# Altium schematic symbol library General.SchLib: 18 symbols
Pins are listed as number, name and electrical type; pins without a type are passive.

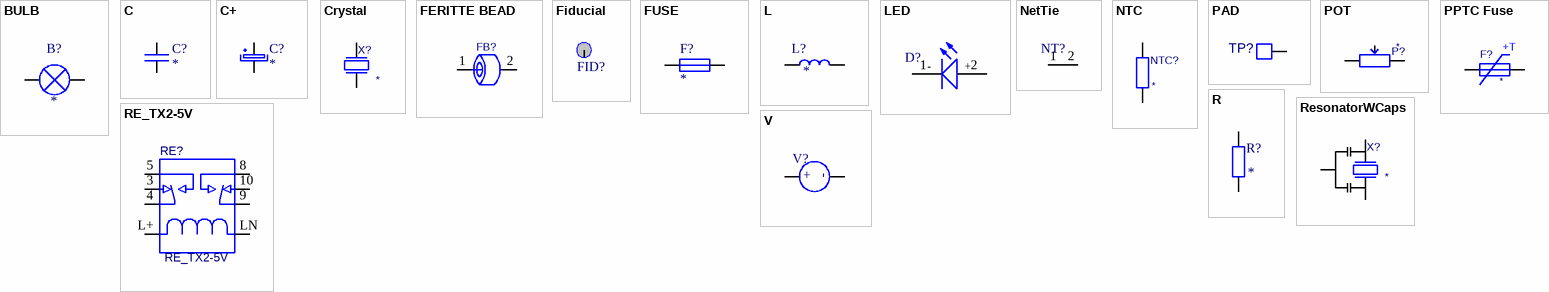
[diagram p0: symbols BULB to V]

## BULB
designator B?
pins: 1, 2

## C
designator C?
Capacitor
footprint C square R15 (600mil)
footprint C Square R5.08 (200mil)
footprint C ceramic F5mm
footprint C1608_0603I_L (Chip Capacitor, 2-Leads, Body 1.57x0.85mm, IPC High Density)
footprint C1608_0603I_M (Chip Capacitor, 2-Leads, Body 1.57x0.85mm, IPC Low Density)
footprint C1608_0603I_N (Chip Capacitor, 2-Leads, Body 1.57x0.85mm, IPC Medium Density)
footprint C1608_0603I_N-equidistant (Chip Capacitor, 2-Leads, Body 1.57x0.85mm, IPC Medium Density)
footprint C2012_0805I_L (Chip Capacitor, 2-Leads, Body 2.05x1.25mm, IPC High Density)
footprint C2012_0805I_M (Chip Capacitor, 2-Leads, Body 2.05x1.25mm, IPC Low Density)
footprint C2012_0805I_N (Chip Capacitor, 2-Leads, Body 2.05x1.25mm, IPC Medium Density)
footprint C3216_1206I_L (Chip Capacitor, 2-Leads, Body 3.20x1.60mm, IPC High Density)
footprint C3216_1206I_M (Chip Capacitor, 2-Leads, Body 3.20x1.60mm, IPC Low Density)
footprint C3216_1206I_N (Chip Capacitor, 2-Leads, Body 3.20x1.60mm, IPC Medium Density)
footprint C3225_1210I_L (Chip Capacitor, 2-Leads, Body 3.20x2.50mm, IPC High Density)
footprint C3225_1210I_M (Chip Capacitor, 2-Leads, Body 3.20x2.50mm, IPC Low Density)
footprint C3225_1210I_N (Chip Capacitor, 2-Leads, Body 3.20x2.50mm, IPC Medium Density)
pins: 1, 2

## C+
designator C?
Capacitor Polarized
footprint C Tantal A (Molded Capacitor, 2-Leads, Body 3,2x1,6mm, IPC Medium Density)
footprint C Tantal B (Molded Capacitor, 2-Leads, Body 3,5x2,8mm, IPC Medium Density)
footprint C Tantal C (Molded Capacitor, 2-Leads, Body 6,0x3,2mm, IPC Medium Density)
footprint C Tantal D (Molded Capacitor, 2-Leads, Body 7,3x4,3mm, IPC Medium Density)
footprint C Tantal E (Molded Capacitor, 2-Leads, Body 7,3x4,3mm, IPC Medium Density)
footprint C_R_5.0_10.0x13.0 (Capacitor radial FI=10mm Height=13mm, Pitch=5mm)
footprint C AlElko 5x11 R2
footprint C AlElko 6x__ R2.5
footprint C-SMD-ELKO-B (Aluminum Electrolytic Capacitor, Body 4.20x4.20x6.10mm, IPC Medium Density)
footprint C-SMD-ELKO-C (Aluminum Electrolytic Capacitor, Body 5.30x5.30x6.10mm, IPC Medium Density)
footprint C-SMD-ELKO-D (Aluminum Electrolytic Capacitor, Body 6.60x6.60x6.10mm, IPC Medium Density)
footprint C-SMD-ELKO-D8 (Aluminum Electrolytic Capacitor, Body 6,60x6,60x8,00mm, IPC Medium Density)
footprint C-SMD-ELKO-F (Aluminum Electrolytic Capacitor, Body 8.30x8.30x10.50mm, IPC Medium Density)
footprint C-SMD-ELKO-G (Aluminum Electrolytic Capacitor, Body 10.30x10.30x10.50mm, IPC Medium Density)
footprint C AlElko 8x__ R3.5
footprint C AlElko 10x__ R5
footprint C AlElko R2.5,R5
footprint C AlElko R2.54 FI5
footprint C-SMD-ELKO-E (Aluminum Electrolytic Capacitor, Body 8.30x8.30x6.50mm, IPC Low Density)
pins: 1, 2

## Crystal
designator X?
Crystal
footprint Crystal_HC49 (Crystall SMD short HC49)
footprint Crystal_THT_small_lying_down
footprint Crystal_THT_short (Crystal short THT)
footprint Crystal_THT_tall (Crystal tall THT)
footprint Crystal_5x3.2mm
pins: 1, 2

## FERITTE BEAD
designator FB?  (value not drawn)
FERITTE BEAD
footprint R1005_0402i_L (Resistor, Chip; 1.00 mm L X 0.50 mm W X 0.40 mm H body)
footprint R1005_0402i_M (Resistor, Chip; 1.00 mm L X 0.50 mm W X 0.40 mm H body)
footprint R1005_0402I_N (Resistor, Chip; 1.00 mm L X 0.50 mm W X 0.40 mm H body)
footprint R1608_0603I_L (Chip Resistor, 2-Leads, Body 1.57x0.85mm, IPC High Density)
footprint R1608_0603I_M (Chip Resistor, 2-Leads, Body 1.57x0.85mm, IPC Low Density)
footprint R1608_0603I_N-equidistant (Chip Resistor, 2-Leads, Body 1.57x0.85mm, IPC Medium Density)
footprint R1608_0603I_N (Chip Resistor, 2-Leads, Body 1.57x0.85mm, IPC Medium Density)
footprint R2012_0805I_L (Chip Resistor, 2-Leads, Body 2.05x1.25mm, IPC High Density)
footprint R2012_0805I_M (Chip Resistor, 2-Leads, Body 2.05x1.25mm, IPC Low Density)
footprint R2012_0805I_N (Chip Resistor, 2-Leads, Body 2.05x1.25mm, IPC Medium Density)
footprint R3216_1206I_L (Chip Resistor, 2-Leads, Body 3.15x1.60mm, IPC High Density)
footprint R3216_1206I_M (Chip Resistor, 2-Leads, Body 3.15x1.60mm, IPC Low Density)
footprint R3216_1206I_N (Chip Resistor, 2-Leads, Body 3.15x1.60mm, IPC Medium Density)
footprint R6432_2512I_L (Resistor, Chip; 6.40 mm L X 3.20 mm W X 0.75 mm H body)
footprint R6432_2512I_M (Resistor, Chip; 6.40 mm L X 3.20 mm W X 0.75 mm H body)
footprint R6432_2512I_N (Resistor, Chip; 6.40 mm L X 3.20 mm W X 0.75 mm H body)
pins: 1, 2

## Fiducial
designator FID?  (value not drawn)
according to IPC-7351 - is a 1mm diameter round dot with 2mm solder mask opening; Voltage: 50V; Tolerance: 5%; max.Temperature: +125; min.Temperature: -40
footprint Fiducial
pins: F (power)

## FUSE
designator F?
FUSE
footprint R1005_0402i_L (Resistor, Chip; 1.00 mm L X 0.50 mm W X 0.40 mm H body)
footprint R1005_0402i_M (Resistor, Chip; 1.00 mm L X 0.50 mm W X 0.40 mm H body)
footprint R1005_0402I_N (Resistor, Chip; 1.00 mm L X 0.50 mm W X 0.40 mm H body)
footprint R1608_0603I_L (Chip Resistor, 2-Leads, Body 1.57x0.85mm, IPC High Density)
footprint R1608_0603I_M (Chip Resistor, 2-Leads, Body 1.57x0.85mm, IPC Low Density)
footprint R1608_0603I_N (Chip Resistor, 2-Leads, Body 1.57x0.85mm, IPC Medium Density)
footprint R1608_0603I_N-equidistant (Chip Resistor, 2-Leads, Body 1.57x0.85mm, IPC Medium Density)
footprint R2012_0805I_L (Chip Resistor, 2-Leads, Body 2.05x1.25mm, IPC High Density)
footprint R2012_0805I_M (Chip Resistor, 2-Leads, Body 2.05x1.25mm, IPC Low Density)
footprint R2012_0805I_N (Chip Resistor, 2-Leads, Body 2.05x1.25mm, IPC Medium Density)
footprint R3216_1206I_L (Chip Resistor, 2-Leads, Body 3.15x1.60mm, IPC High Density)
footprint R3216_1206I_M (Chip Resistor, 2-Leads, Body 3.15x1.60mm, IPC Low Density)
footprint R3216_1206I_N (Chip Resistor, 2-Leads, Body 3.15x1.60mm, IPC Medium Density)
footprint R6432_2512I_L (Resistor, Chip; 6.40 mm L X 3.20 mm W X 0.75 mm H body)
footprint R6432_2512I_M (Resistor, Chip; 6.40 mm L X 3.20 mm W X 0.75 mm H body)
footprint R6432_2512I_N (Resistor, Chip; 6.40 mm L X 3.20 mm W X 0.75 mm H body)
pins: 1, 2

## L
designator L?
L
footprint R400
footprint L_10.4X10.4
footprint L_Radial_5.0_1.0_3D_FI11.5_H14
footprint L_Radial_7.5_1.2_2D_FI16
footprint L_RADIAL_5.0_8.5x11.0
footprint L_RADIAL_7.2_13.7x15.9
footprint MSS1278 (Precision Wire Wound Inductor, 2-Leads, Body 12,15x12,15mm, IPC Medium Density)
footprint MSS1278-enlarged pads (Precision Wire Wound Inductor, 2-Leads, Body 12,15x12,15mm, IPC NONE - Medium->Enlarged pads)
footprint L-Coilcraft-DR0608
footprint L Murata 1400 F23.8mm 27x14
footprint L100100X48_N (Precision Wire Wound Inductor, 2-Leads, Body 10.00x10.00mm, IPC Medium Density)
footprint L4040_1616I_L (Inductor, Chip; 4.00 mm L X 4.00 mm W X 2.50 mm H body)
footprint L4040_1616I_M (Inductor, Chip; 4.00 mm L X 4.00 mm W X 2.50 mm H body)
footprint L4040_1616I_N (Inductor, Chip; 4.00 mm L X 4.00 mm W X 2.50 mm H body)
footprint L5050_2020I (Precision Wire Wound Inductor, 2-Leads, Body 5,00x5,00mm, IPC Medium Density)
footprint L6060_2424I_L (Inductor, Chip; 6.00 mm L X 6.00 mm W X 2.80 mm H body)
footprint L6060_2424I_M (Inductor, Chip; 6.00 mm L X 6.00 mm W X 2.80 mm H body)
footprint L6060_2424I_N (Inductor, Chip; 6.00 mm L X 6.00 mm W X 2.80 mm H body)
footprint L7070_2523I
footprint L8080X40_N (Precision Wire Wound Inductor, 2-Leads, Body 8.00x8.00x4.00mm, IPC Medium Density)
footprint L3030X10N (Precision Wire Wound Inductor, 2-Leads, Body 3.00x3.00mm, IPC Medium Density)
footprint R1608_0603I_L (Chip Resistor, 2-Leads, Body 1.57x0.85mm, IPC High Density)
footprint R1608_0603I_M (Chip Resistor, 2-Leads, Body 1.57x0.85mm, IPC Low Density)
footprint R1608_0603I_N (Chip Resistor, 2-Leads, Body 1.57x0.85mm, IPC Medium Density)
footprint R1608_0603I_N-equidistant (Chip Resistor, 2-Leads, Body 1.57x0.85mm, IPC Medium Density)
footprint R2012_0805I_L (Chip Resistor, 2-Leads, Body 2.05x1.25mm, IPC High Density)
footprint R2012_0805I_M (Chip Resistor, 2-Leads, Body 2.05x1.25mm, IPC Low Density)
footprint R2012_0805I_N (Chip Resistor, 2-Leads, Body 2.05x1.25mm, IPC Medium Density)
footprint R3216_1206I_L (Chip Resistor, 2-Leads, Body 3.15x1.60mm, IPC High Density)
footprint R3216_1206I_M (Chip Resistor, 2-Leads, Body 3.15x1.60mm, IPC Low Density)
footprint R3216_1206I_N (Chip Resistor, 2-Leads, Body 3.15x1.60mm, IPC Medium Density)
footprint R6432_2512I_L (Resistor, Chip; 6.40 mm L X 3.20 mm W X 0.75 mm H body)
footprint R6432_2512I_M (Resistor, Chip; 6.40 mm L X 3.20 mm W X 0.75 mm H body)
footprint R6432_2512I_N (Resistor, Chip; 6.40 mm L X 3.20 mm W X 0.75 mm H body)
pins: 1, 2

## LED
designator D?  (value not drawn)
LED
footprint LED2012_0805I_N (SMD LED, 2-Leads, Body 2.05x1.25mm, IPC Medium Density)
footprint LED1608_0603I_L (SMD LED, 2-Leads, Body 1.57x0.85mm, IPC High Density)
footprint LED1608_0603I_M (SMD LED, 2-Leads, Body 1.57x0.85mm, IPC Low Density)
footprint LED1608_0603I_N (SMD LED, 2-Leads, Body 1.57x0.85mm, IPC Medium Density)
footprint LED1608_0603I_N-equidistant (SMD LED, 2-Leads, Body 1.57x0.85mm, IPC Medium Density)
footprint LED2012_0805I_L (SMD LED, 2-Leads, Body 2.05x1.25mm, IPC High Density)
footprint LED2012_0805I_M (SMD LED, 2-Leads, Body 2.05x1.25mm, IPC Low Density)
footprint LED3216_1206I_L (SMD LED, 2-Leads, Body 3.15x1.60mm, IPC High Density)
footprint LED3216_1206I_M (SMD LED, 2-Leads, Body 3.15x1.60mm, IPC Low Density)
footprint LED3216_1206I_N (SMD LED, 2-Leads, Body 3.15x1.60mm, IPC Medium Density)
pins: 1 -, 2 +
7 alternate drawings of the same symbol

## NetTie
designator NT?  (value not drawn)  (net tie, no BOM)
Connetct different grounds together
footprint NetTie-10mil
footprint NETTIE-5mil
footprint NETTIE-7mil
footprint NETTIE-20mil
footprint NETTIE-25mil
footprint NETTIE-50mil
pins: 1, 2

## NTC
designator NTC?
NTC resistor
footprint NTC0603embeded
footprint R1005_0402i_L (Resistor, Chip; 1.00 mm L X 0.50 mm W X 0.40 mm H body)
footprint R1005_0402i_M (Resistor, Chip; 1.00 mm L X 0.50 mm W X 0.40 mm H body)
footprint R1005_0402I_N (Resistor, Chip; 1.00 mm L X 0.50 mm W X 0.40 mm H body)
footprint R1608_0603I_L (Chip Resistor, 2-Leads, Body 1.57x0.85mm, IPC High Density)
footprint R1608_0603I_M (Chip Resistor, 2-Leads, Body 1.57x0.85mm, IPC Low Density)
footprint R1608_0603I_N (Chip Resistor, 2-Leads, Body 1.57x0.85mm, IPC Medium Density)
footprint R1608_0603I_N-equidistant (Chip Resistor, 2-Leads, Body 1.57x0.85mm, IPC Medium Density)
footprint R2012_0805I_L (Chip Resistor, 2-Leads, Body 2.05x1.25mm, IPC High Density)
footprint R2012_0805I_M (Chip Resistor, 2-Leads, Body 2.05x1.25mm, IPC Low Density)
footprint R2012_0805I_N (Chip Resistor, 2-Leads, Body 2.05x1.25mm, IPC Medium Density)
footprint R3216_1206I_L (Chip Resistor, 2-Leads, Body 3.15x1.60mm, IPC High Density)
footprint R3216_1206I_M (Chip Resistor, 2-Leads, Body 3.15x1.60mm, IPC Low Density)
footprint R3216_1206I_N (Chip Resistor, 2-Leads, Body 3.15x1.60mm, IPC Medium Density)
footprint R6432_2512I_L (Resistor, Chip; 6.40 mm L X 3.20 mm W X 0.75 mm H body)
footprint R6432_2512I_M (Resistor, Chip; 6.40 mm L X 3.20 mm W X 0.75 mm H body)
footprint R6432_2512I_N (Resistor, Chip; 6.40 mm L X 3.20 mm W X 0.75 mm H body)
pins: 1, 2

## PAD
designator TP?  (value not drawn)
footprint PAD
footprint PAD_CIRC
footprint PAD_HOLE
footprint PAD_CIRC_HOLE
pins: 1

## POT
designator P?
POTENTIOMETER
footprint POT-ROT
footprint POT-H-multi
footprint POT-H-10
footprint POT-H-2.5
footprint POT-H-5
footprint P_2020 (2x2mm SMD trimmer)
pins: 1, 2, 3

## PPTC Fuse
designator F?
PPTC Fuse
footprint PPTC SMD 7.37x5.12 (PPTC SMD, 2-Leads, Body 7.36x5.12mm, IPC Medium Density)
footprint PPTC SMD 4.55x3.24 (1812) (PPTC SMD, 2-Leads, Body 4.55x3.24mm, IPC Medium Density)
pins: 1, 2
text: +T

## R
designator R?
R
footprint R400
footprint R300
footprint R500
footprint LDR
footprint R_Ax_L1550_D500 (Resistor, Axial; 20.60 mm C X 0.80 mm W 15.50 mm L X 5.00 mm Dia body)
footprint R2012_0805I_N (Chip Resistor, 2-Leads, Body 2.05x1.25mm, IPC Medium Density)
footprint R1005_0402i_L (Resistor, Chip; 1.00 mm L X 0.50 mm W X 0.40 mm H body)
footprint R1005_0402i_M (Resistor, Chip; 1.00 mm L X 0.50 mm W X 0.40 mm H body)
footprint R1608_0603I_L (Chip Resistor, 2-Leads, Body 1.57x0.85mm, IPC High Density)
footprint R1608_0603I_M (Chip Resistor, 2-Leads, Body 1.57x0.85mm, IPC Low Density)
footprint R1608_0603I_N (Chip Resistor, 2-Leads, Body 1.57x0.85mm, IPC Medium Density)
footprint R1608_0603I_N-equidistant (Chip Resistor, 2-Leads, Body 1.57x0.85mm, IPC Medium Density)
footprint R1005_0402I_N (Resistor, Chip; 1.00 mm L X 0.50 mm W X 0.40 mm H body)
footprint R2012_0805I_L (Chip Resistor, 2-Leads, Body 2.05x1.25mm, IPC High Density)
footprint R2012_0805I_M (Chip Resistor, 2-Leads, Body 2.05x1.25mm, IPC Low Density)
footprint R3216_1206I_L (Chip Resistor, 2-Leads, Body 3.15x1.60mm, IPC High Density)
footprint R3216_1206I_N (Chip Resistor, 2-Leads, Body 3.15x1.60mm, IPC Medium Density)
footprint R6432_2512I_L (Resistor, Chip; 6.40 mm L X 3.20 mm W X 0.75 mm H body)
footprint R3216_1206I_M (Chip Resistor, 2-Leads, Body 3.15x1.60mm, IPC Low Density)
footprint R6432_2512I_N (Resistor, Chip; 6.40 mm L X 3.20 mm W X 0.75 mm H body)
footprint R6432_2512I_M (Resistor, Chip; 6.40 mm L X 3.20 mm W X 0.75 mm H body)
pins: 1, 2

## RE_TX2-5V
designator RE?
Value: {Value}
footprint _DIP12_MOD_RE_TX2-5V(Primary)
pins: 3 M1, 4 C1, 5 P1, 8 P2, 9 C2, 10 M2, L+, LN L-

## ResonatorWCaps
designator X?
Crystal
footprint RESONATOR_3213met_L (Oscillator, Side Concave, 1.20 mm pitch; 6 pin, 3.20 mm L X 1.30 mm W X 0.80 mm H body)
footprint RESONATOR_3213met_M (Oscillator, Side Concave, 1.20 mm pitch; 6 pin, 3.20 mm L X 1.30 mm W X 0.80 mm H body)
footprint RESONATOR_3213met_N (Oscillator, Side Concave, 1.20 mm pitch; 6 pin, 3.20 mm L X 1.30 mm W X 0.80 mm H body)
pins: 1, 2 GND, 3 2

## V
designator V?
simulation model VoltageDC (Model Description)
pins: 1, 2
text: -; +